# Altium integrated library Lolin D32.IntLib: 1 symbol
Pins are listed as number, name and electrical type; pins without a type are passive.

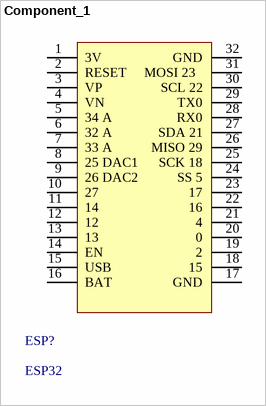
[diagram p0: symbol Component_1]

## Component_1
designator ESP?, comment ESP32
Lolin D32 Module
footprint Lolin D32 (Lolin D32 ESP32 Module)
pins: 1 3V, 2 RESET, 3 VP, 4 VN, 5 34 A, 6 32 A, 7 33 A, 8 25 DAC1, 9 26 DAC2, 10 27, 11 14, 12, 13, 14 EN, 15 USB, 16 BAT, 17 GND, 18 15, 19 2, 20 0, 21 4, 22 16, 23 17, 24 SS 5, 25 SCK 18, 26 MISO 29, 27 SDA 21, 28 RX0, 29 TX0, 30 SCL 22, 31 MOSI 23  , 32 GND